# Altium schematic symbol library Main Board.SchLib: 35 symbols
Pins are listed as number, name and electrical type; pins without a type are passive.

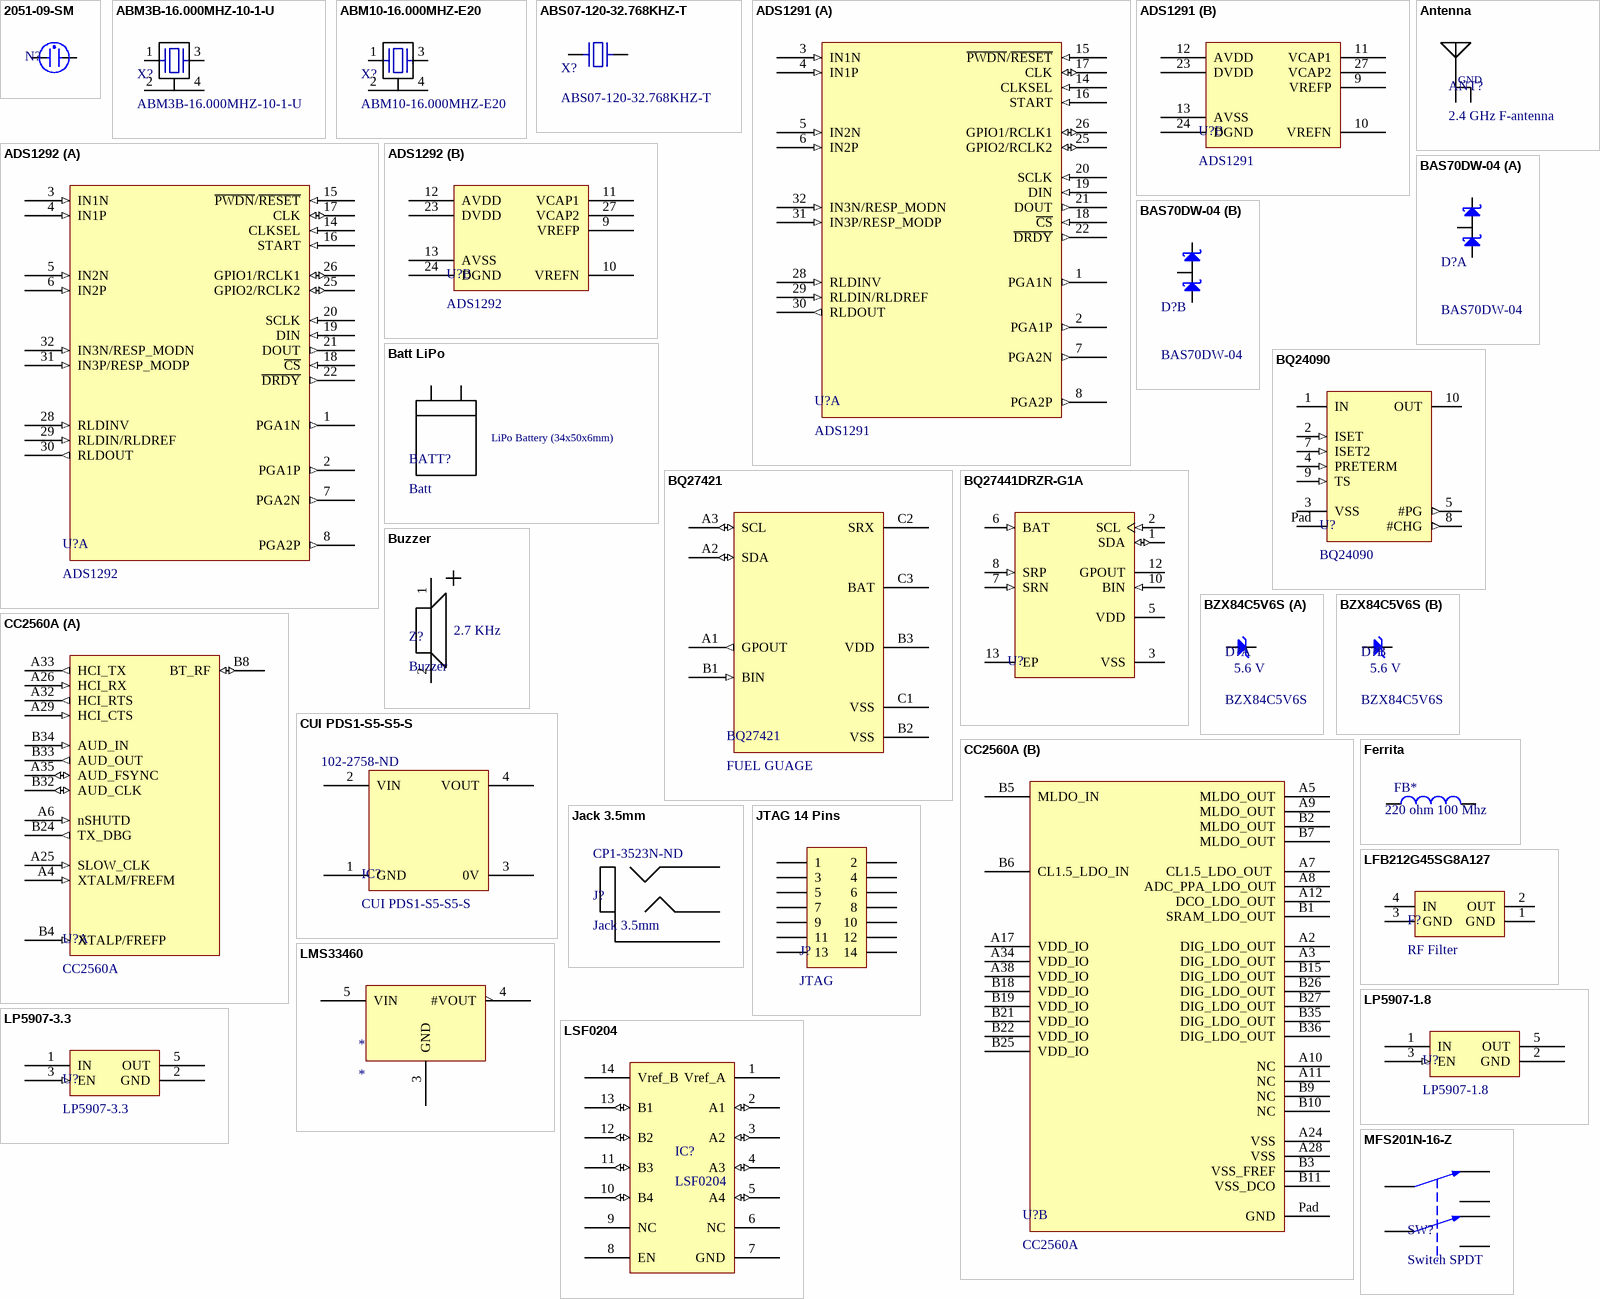
[diagram p0: symbols 2051-09-SM to MFS201N-16-Z]

## 2051-09-SM
designator N?, comment GDT  (value not drawn)
GDT - Gas Discharge Tube; DC Sparkover: 90 V; Impulse Sparkover (1000V/us): <600 V; Glow Voltage: 70 V; Arc Voltage: 10 V; Glow-Arc Transition Current: <1 A; Impulse Sparkover (100V/us): <500 V; Supplier 1: Digi-Key; Supplier Part Number 1: 2051-09-SM-RPLFCT-ND
footprint 1812 GDT (GDT SMD)
pins: 1, 2

## ABM3B-16.000MHZ-10-1-U
designator X?
Crystal - 16 MHz; Frequency: 16 MHz; Load Capacitance: 10 pF; ESR: 50 m; Supplier 1: Digi-Key; Supplier Part Number 1: 300-8206-1-ND
footprint ABM3B-16.000MHZ-10-1-U (Crystal 16 MHz)
pins: 1, 2, 3, 4

## ABM10-16.000MHZ-E20
designator X?
Crystal - 16 MHz; Frequency: 16 MHz; Load Capacitance: 10 pF; ESR: 150 m; Supplier 1: Digi-Key; Supplier Part Number 1: 535-9810-1-ND
footprint ABM10-16.000MHZ-E20 (Crystal 16 MHz)
pins: 1, 2, 3, 4

## ABS07-120-32.768KHZ-T
designator X?
Crystal - 32.768 kHz; Load Capacitance: 6 pF; Frequency: 32.768 kHz; Supplier 1: Digi-Key; Supplier Part Number 1: 535-11937-1-ND
footprint ABS07-120-32.768KHZ-T (DFN, 2-Leads, Body 1,50x3,20mm, Pitch 2,45mm, IPC Medium Density)
pins: 1, 2

## ADS1291
designator U?
AFE - Medical Analog Front End; Supplier 1: Digi-Key; Supplier Part Number 1: 296-36547-5-ND
footprint TSQFP50P700X700X120-32N (TSQFP, 32-Leads, Body 5,00x5,00mm, Pitch 0,50mm, IPC Medium Density)
part A pins: 1 PGA1N (out), 2 PGA1P (out), 3 IN1N (in), 4 IN1P (in), 5 IN2N (in), 6 IN2P (in), 7 PGA2N (out), 8 PGA2P (out), 14 CLKSEL (in), 15 ~{PWDN}/~{RESET} (in), 16 START (in), 17 CLK (io), 18 ~{CS} (in), 19 DIN (in), 20 SCLK (in), 21 DOUT (out), 22 ~{DRDY} (out), 25 GPIO2/RCLK2 (io), 26 GPIO1/RCLK1 (io), 28 RLDINV (in), 29 RLDIN/RLDREF (in), 30 RLDOUT (out), 31 IN3P/RESP_MODP (in), 32 IN3N/RESP_MODN (in)
part B pins: 9 VREFP, 10 VREFN, 11 VCAP1, 12 AVDD (power), 13 AVSS (power), 23 DVDD (power), 24 DGND (power), 27 VCAP2

## ADS1292
designator U?
AFE - Medical Analog Front End; Supplier 1: Digi-Key; Supplier Part Number 1: 296-30137-5-ND
footprint TSQFP50P700X700X120-32N (TSQFP, 32-Leads, Body 5,00x5,00mm, Pitch 0,50mm, IPC Medium Density)
part A pins: 1 PGA1N (out), 2 PGA1P (out), 3 IN1N (in), 4 IN1P (in), 5 IN2N (in), 6 IN2P (in), 7 PGA2N (out), 8 PGA2P (out), 14 CLKSEL (in), 15 ~{PWDN}/~{RESET} (in), 16 START (in), 17 CLK (io), 18 ~{CS} (in), 19 DIN (in), 20 SCLK (in), 21 DOUT (out), 22 ~{DRDY} (out), 25 GPIO2/RCLK2 (io), 26 GPIO1/RCLK1 (io), 28 RLDINV (in), 29 RLDIN/RLDREF (in), 30 RLDOUT (out), 31 IN3P/RESP_MODP (in), 32 IN3N/RESP_MODN (in)
part B pins: 9 VREFP, 10 VREFN, 11 VCAP1, 12 AVDD (power), 13 AVSS (power), 23 DVDD (power), 24 DGND (power), 27 VCAP2

## Antenna
designator ANT?, comment 2.4 GHz F-antenna  (net tie, no BOM)
footprint Antenna
pins: 1 IN, 2 GND

## BAS70DW-04
designator D?
Schottky Diode - Array; Supplier 1: Digi-Key; Supplier Part Number 1: BAS70DW-04FDICT-ND
footprint SOT-363 (SOT23, 6-Leads, Body 2,00x2,10mm, Pitch 0,65mm, IPC Medium Density)
part A pins: 1 A1, 2 K1, 6 AK1
part B pins: 3 AK2, 4 A2, 5 K2

## Batt LiPo
designator BATT?, comment Batt  (mechanical)
Batt - LiPo Battery 3.7V 1050mAh
footprint BATT
text: LiPo Battery (34x50x6mm)

## BQ24090
designator U?
Battery Charger, Single Cell Li-Ion/LiPo, 1A; Supplier 1: Digi-Key; Supplier Part Number 1: 296-38875-1-ND
footprint TSSOP50P490X110_HS-11N (TSSOP, 10-Leads, Body 3,00x3,00mm, Pitch 0,50mm, Thermal Pad 1,88x1,57mm, IPC Medium Density)
pins: 1 IN (power), 2 ISET (in), 3 VSS (power), 4 PRETERM (in), 5 #PG (out), 7 ISET2 (in), 8 #CHG (out), 9 TS (in), 10 OUT (power), Pad Thermal

## BQ27421
designator BQ27421, comment FUEL GUAGE
Supplier 1: Digi-Key; Supplier Part Number 1: 296-38880-1-ND
footprint BQ27421 (BGA, 9-Leads, Body 1,62x1,58mmx0,63mm, Pitch 0,50mm)
pins: A1 GPOUT (out), A2 SDA (io), A3 SCL (io), B1 BIN (in), B2 VSS (power), B3 VDD (power), C1 VSS (power), C2 SRX (power), C3 BAT (power)

## BQ27441DRZR-G1A
designator U?
System-Side Impedance Track Fuel Gauge, -40 to 85 degC, 12-pin SON (DRZ), Green (RoHS & no Sb/Br); PartNumber: BQ27410DRZR-G1; Manufacturer: Texas Instruments; Lead Acid: N; Li-Ion: Y; SubFamily: Battery Fuel Gauge; DatasheetVersion: SLUSAF4; PackageVersion: revB, Apr-2006; PackageReference: DRZ12-1950X2450TP; PackageDescription: 12-Pin Plastic Small Outline No-Lead, 4 x 2.5 x 1 mm Body, 0.4 mm Pitch, Exposed Pad, Pb-Free; Supplier 1: Digi-Key; Supplier Part Number 1: BQ27410DRZR-G1-ND; Supplier 2: Newark; Supplier Part Number 2: 45T7828; Supplier 3: Mouser; Supplier Part Number 3: 595-BQ27410DRZR-G1; Eco-Plan: Green (RoHS & no Sb/Br); Li-Polymer: Y; NiCd: N; NiMH: N; Over Voltage Protection: N; Mounting Technology: Surface Mount; ComponentLink1Description: Datasheet; ComponentLink1URL: http://www.ti.com/general/docs/lit/getliterature.tsp?genericPartNumber=BQ27410-G1&fileType=pdf
footprint DRZ12-1950X2450TP (SON, 12-Leads, Body 4x2.5mm, Pitch 0.4mm, Thermal Pad 1.95x2.45mm, TI Recommended)
pins: 1 SDA (io) "Slave I2C serial communications data line for communication with system (Master). Open-drain I/O. Use with 10kohm pull-up resistor (typical).", 2 SCL (in) "Slave I2C serial communications clock input line for communication with system (Master). Use with 10kohm pull-up resistor (typical).", 3 VSS (power) "Device ground", 5 VDD (power) "Processor power input. Decouple with minimum 0.1µF ceramic capacitor.", 6 BAT (in) "Cell-voltage measurement input. ADC input. Recommend 4.8V maximum for conversion accuracy.", 7 SRN (in) "Analog input pin connected to the internal coulomb counter where SRN is nearest the Vss connection.Connect to 5-mohm to 20-mohm sense resistor.", 8 SRP (in) "Analog input pin connected to the internal coulomb counter where SRP is nearest the PACK- connection.Connect to 5-mohm to 20-mohm sense resistor.", 10 BIN (in) "Battery-insertion detection input. A logic high to low transition is detected as a battery insertion event.", 12 GPOUT (oc) "General Purpose open-drain output. May be configured as Battery Low indicator or perform SOC interrupt (SOC_INT) function.", 13 EP "Exposed thermal pad"

## Buzzer
designator Z?
Magnetic Buzzer 2.7 KHz; Supplier 1: Farnell; Supplier Part Number 1: 2215090
footprint KSSG74B16 (Magnetic Buzzer)
pins: 1 +, 2 -
text: 2.7 KHz

## BZX84C5V6S
designator D?  Zener Voltage: 5.6 V
Zener Diode - Dual 200mW; Forward Voltage: 0.9 V; Supplier 1: Digi-Key; Supplier Part Number 1: BZX84C5V6S-FDICT-ND
footprint SOT-363 (SOT23, 6-Leads, Body 2,00x2,10mm, Pitch 0,65mm, IPC Medium Density)
part A pins: 5 A1, 6 K1
part B pins: 2 A2, 3 K2

## CC2560A
designator U?
Bluetooth - BT 4.0 controller (BR/EDR); Supplier 1: Farnell; Supplier Part Number 1: 2334559
footprint CC2560 (Double Row QFN, 76-Leads, Body 8,00x8,00mm, Pitch 0,60mm, Thermal Pad 3,40x3,40mm, IPC Low Density)
part A pins: A4 XTALM/FREFM (in), A6 nSHUTD (in), A25 SLOW_CLK (in), A26 HCI_RX (in), A29 HCI_CTS (in), A32 HCI_RTS (out), A33 HCI_TX (out), A35 AUD_FSYNC (io), B4 XTALP/FREFP (in), B8 BT_RF (io), B24 TX_DBG (out), B32 AUD_CLK (io), B33 AUD_OUT (out), B34 AUD_IN (in)
part B pins: A2 DIG_LDO_OUT (power), A3 DIG_LDO_OUT (power), A5 MLDO_OUT (power), A7 CL1.5_LDO_OUT  (power), A8 ADC_PPA_LDO_OUT (power), A9 MLDO_OUT (power), A10 NC, A11 NC, A12 DCO_LDO_OUT (power), A17 VDD_IO (power), A24 VSS (power), A28 VSS (power), A34 VDD_IO (power), A38 VDD_IO (power), B1 SRAM_LDO_OUT (power), B2 MLDO_OUT (power), B3 VSS_FREF (power), B5 MLDO_IN (power), B6 CL1.5_LDO_IN (power), B7 MLDO_OUT (power), B9 NC, B10 NC, B11 VSS_DCO (power), B15 DIG_LDO_OUT (power), B18 VDD_IO (power), B19 VDD_IO (power), B21 VDD_IO (power), B22 VDD_IO (power), B25 VDD_IO (power), B26 DIG_LDO_OUT (power), B27 DIG_LDO_OUT (power), B35 DIG_LDO_OUT (power), B36 DIG_LDO_OUT (power), Pad GND (power)

## CUI PDS1-S5-S5-S
designator IC?  Supplier Part Number 1: 102-2758-ND
Supplier 1: Digi-Key
footprint SIL4
pins: 1 GND (power), 2 VIN (power), 3 0V (power), 4 VOUT (power)

## Ferrita
designator FB*, comment 220 ohm 100 Mhz
INDUCTOR, 0.04OHM, 3A, 0805; Value: 220 ohm 100 Mhz
footprint 0805 Ind (Chip Capacitor, 2-Leads, Body 2,00x1,25mm, IPC Medium Density)
pins: 1, 2

## Jack 3.5mm
designator J?  Supplier Part Number 1: CP1-3523N-ND
Supplier 1: Digi-Key
footprint Jack 3.5mm
pins: 1 Sleeve, 2 Tip, 3 Ring

## JTAG 14 Pins
designator J?, comment JTAG
JTAG 7X2 Pin Header 90º; Supplier 1: Digi-Key; Supplier Part Number 1: ED10534-ND
footprint JTAG 14 PINS (7X2 PIN Header 90º JTAG)
pins: 1, 2, 3, 4, 5, 6, 7, 8, 9, 10, 11, 12, 13, 14

## LFB212G45SG8A127
designator F?, comment RF Filter
RF Filter 2.4 GHz; Supplier 1: Digi-Key; Supplier Part Number 1: 490-5021-1-ND
footprint LFB212G45SG8A127 (DFN, 4-Leads, Body 2,00x1,25mm, Pitch 1,50mm, IPC Medium Density)
pins: 1 GND (power), 2 OUT, 3 GND (power), 4 IN (power)

## LMS33460
designator *
Supplier 1: Digi-Key; Supplier Part Number 1: LMS33460MG/NOPBCT-ND
footprint LMS33460 (SOT23, 5-Leads, Body 2,00x2,10mm, Pitch 0,65mm, IPC Medium Density)
pins: 3 GND (power), 4 #VOUT (oc), 5 VIN (power)

## LP5907-1.8
designator U?
Voltage Regulator - Linear; Supplier 1: Digi-Key; Supplier Part Number 1: 296-41463-1-ND
footprint SOT23 (SOT23, 5-Leads, Body 2,90x2,80mm, Pitch 0,95mm, IPC Medium Density)
pins: 1 IN (power), 2 GND (power), 3 EN (in), 5 OUT (power)

## LP5907-3.3
designator U?
Voltage Regulator - Linear; Supplier 1: Digi-Key; Supplier Part Number 1: 296-38557-1-ND
footprint SOT23 (SOT23, 5-Leads, Body 2,90x2,80mm, Pitch 0,95mm, IPC Medium Density)
pins: 1 IN (power), 2 GND (power), 3 EN (in), 5 OUT (power)

## LSF0204
designator IC?
footprint LSF0204 (TSOP, 14-Leads, Body 5,00x4,40mm, Pitch 0,65mm, IPC Medium Density)
pins: 1 Vref_A (power), 2 A1 (io), 3 A2 (io), 4 A3 (io), 5 A4 (io), 6 NC, 7 GND (power), 8 EN, 9 NC, 10 B4 (io), 11 B3 (io), 12 B2 (io), 13 B1 (io), 14 Vref_B

## MFS201N-16-Z
designator SW?, comment Switch SPDT
Supplier 1: Digi-Key; Supplier Part Number 1: 563-1558-ND
footprint MFS201N-16-Z (DPDT Switch 30V 1A)
pins: 1, 2, 3, 4, 5, 6

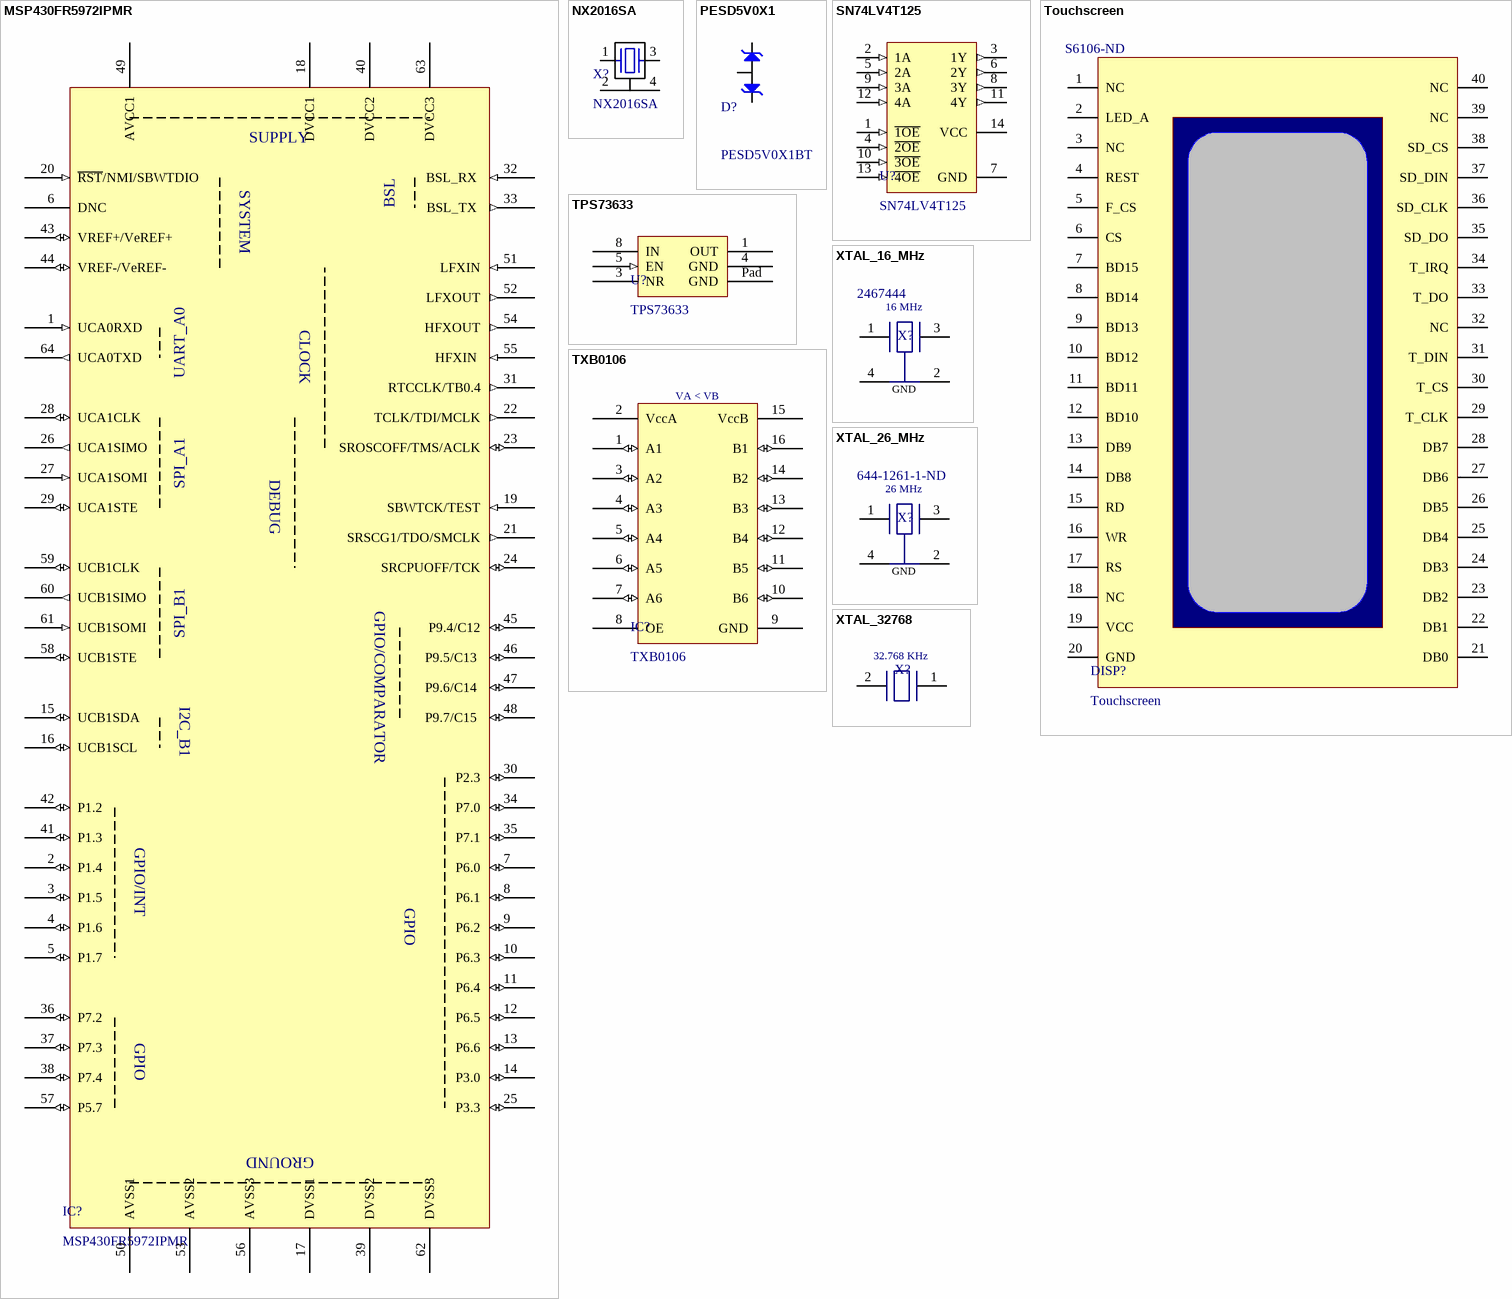
[diagram p1: symbols MSP430FR5972IPMR to XTAL_32768]

## MSP430FR5972IPMR
designator IC?
footprint MSP430FR5972 (TSQFP, 64-Leads, Body 10,00x10,00mm, Pitch 0,50mm, IPC Medium Density)
pins: 1 UCA0RXD (in), 2 P1.4 (io), 3 P1.5 (io), 4 P1.6 (io), 5 P1.7 (io), 6 DNC (hiz), 7 P6.0 (io), 8 P6.1 (io), 9 P6.2 (io), 10 P6.3 (io), 11 P6.4 (io), 12 P6.5 (io), 13 P6.6 (io), 14 P3.0 (io), 15 UCB1SDA (io), 16 UCB1SCL (io), 17 DVSS1 (power), 18 DVCC1 (power), 19 SBWTCK/TEST (in), 20 ~{RST}/NMI/SBWTDIO (in), 21 SRSCG1/TDO/SMCLK (out), 22 TCLK/TDI/MCLK (out), 23 SROSCOFF/TMS/ACLK (io), 24 SRCPUOFF/TCK (io), 25 P3.3 (io), 26 UCA1SIMO (out), 27 UCA1SOMI (in), 28 UCA1CLK (io), 29 UCA1STE (io), 30 P2.3 (io), 31 RTCCLK/TB0.4 (out), 32 BSL_RX  (in), 33 BSL_TX  (out), 34 P7.0 (io), 35 P7.1 (io), 36 P7.2 (io), 37 P7.3 (io), 38 P7.4 (io), 39 DVSS2 (power), 40 DVCC2 (power), 41 P1.3 (io), 42 P1.2 (io), 43 VREF+/VeREF+ (io), 44 VREF-/VeREF- (io), 45 P9.4/C12 (io), 46 P9.5/C13  (io), 47  P9.6/C14  (io), 48 P9.7/C15  (io), 49 AVCC1 (power), 50 AVSS1, 51 LFXIN (in), 52 LFXOUT (out), 53 AVSS2, 54 HFXOUT (out), 55 HFXIN  (in), 56 AVSS3, 57 P5.7 (io), 58 UCB1STE (io), 59 UCB1CLK (io), 60 UCB1SIMO (out), 61 UCB1SOMI (in), 62 DVSS3 (power), 63 DVCC3 (power), 64 UCA0TXD (out)
text: SUPPLY; BSL; SYSTEM; UART_A0; CLOCK; SPI_A1; DEBUG; SPI_B1; GPIO/COMPARATOR; I2C_B1; GPIO/INT; GPIO; GROUND

## NX2016SA
designator X?
Crystal - 26 MHz; Frequency: 26 MHz; Supplier 1: Digi-Key; Supplier Part Number 1: 644-1220-1-ND
footprint NX2016SA
pins: 1, 2, 3, 4

## PESD5V0X1
designator D?, comment PESD5V0X1BT
TVS Diode - Bidirectional; Capacitance: 1 pF; Supplier 1: Digi-Key; Supplier Part Number 1: 568-4676-1-ND
footprint SOT23-3 (SOT23, 3-Leads, Body 2,90x2,30mm, Pitch 0,95mm, IPC Medium Density)
pins: 1 K1, 2 K2, 3 A

## SN74LV4T125
designator U?
Level Translator; Supplier 1: Digi-Key; Supplier Part Number 1: 296-40546-1-ND
footprint PQFN-14 (QFN, 14-Leads, Body 3,50x3,50mm, Pitch 0,50mm/1,50mm, Thermal Pad 2,05x2,05mm, IPC Medium Density)
pins: 1 ~{1OE} (in), 2 1A (in), 3 1Y (out), 4 ~{2OE} (in), 5 2A (in), 6 2Y (out), 7 GND (power), 8 3Y (out), 9 3A (in), 10 ~{3OE} (in), 11 4Y (out), 12 4A (in), 13 ~{4OE} (in), 14 VCC (power)

## Touchscreen
designator DISP?  Supplier Part Number 1: S6106-ND
Supplier 1: Digi-Key
footprint TSCREEN_CONN
footprint TSCREEN_PINS
pins: 1 NC, 2 LED_A, 3 NC, 4 REST, 5 F_CS, 6 CS, 7 BD15, 8 BD14, 9 BD13, 10 BD12, 11 BD11, 12 BD10, 13 DB9, 14 DB8, 15 RD, 16 WR, 17 RS, 18 NC, 19 VCC, 20 GND, 21 DB0, 22 DB1, 23 DB2, 24 DB3, 25 DB4, 26 DB5, 27 DB6, 28 DB7, 29 T_CLK, 30 T_CS, 31 T_DIN, 32 NC, 33 T_DO, 34 T_IRQ, 35 SD_DO, 36 SD_CLK, 37 SD_DIN, 38 SD_CS, 39 NC, 40 NC

## TPS73633
designator U?
Voltage Regulator - Linear; Supplier 1: Digi-Key; Supplier Part Number 1: 296-17884-1-ND
footprint PSON65P300X100_HS-9N (PSON, 8-Leads, Body 3,00x3,00mm, Pitch 0,65mm, Thermal Pad 1,75x1,50mm, IPC Medium Density)
pins: 1 OUT (power), 3 NR, 4 GND (power), 5 EN (in), 8 IN (power), Pad GND (power)

## TXB0106
designator IC?
footprint TXB0106 (TSOP, 16-Leads, Body 5,00x4,40mm, Pitch 0,65mm, IPC Medium Density)
pins: 1 A1 (io), 2 VccA (power), 3 A2 (io), 4 A3 (io), 5 A4 (io), 6 A5 (io), 7 A6 (io), 8 OE, 9 GND (power), 10 B6 (io), 11 B5 (io), 12 B4 (io), 13 B3 (io), 14 B2 (io), 15 VccB, 16 B1 (io)
text: VA < VB

## XTAL_16_MHz
designator X?, comment Supplier Part Number 1: 2467444  (hidden comment: XTAL_16MHZ)
Crystal - 16 MHz; Supplier 1: Farnell
footprint XTAL_16_MHz (DFN, 4-Leads, Body 3,10x2,50mm, Pitch 1,50mm, IPC Medium Density)
pins: 1 OUT, 2 GND, 3 IN, 4 GND
text: 16 MHz

## XTAL_26_MHz
designator X?  Supplier Part Number 1: 644-1261-1-ND  (hidden comment: XTAL_26_MHz)
Crystal - 26 MHz; Supplier 1: Digi-Key
footprint XTAL_26MHZ (DFN, 4-Leads, Body 2,50x3,20mm, Pitch 2,20mm, IPC Medium Density)
pins: 1 OUT, 2 GND, 3 IN, 4 GND
text: 26 MHz

## XTAL_32768
designator X?  (value not drawn)
Crystal - 32.768 KHz; Supplier 1: Digi-Key; Supplier Part Number 1: 535-9032-ND
footprint xtal_32768
pins: 1 IN, 2 OUT
text: 32.768 KHz